# Altium footprint library chinook_lib_symbol_rotor.PcbLib: 3 footprints
Each footprint in its own frame and in the unit in brackets; x right, y up, seen from the top. Pads: shape width x height; smd on the part's side, far side on the other; paste and mask are expansions set on the pad; w line width, h text height; cw(c..) or ccw(c..) is an arc to the next point about the centre after c.
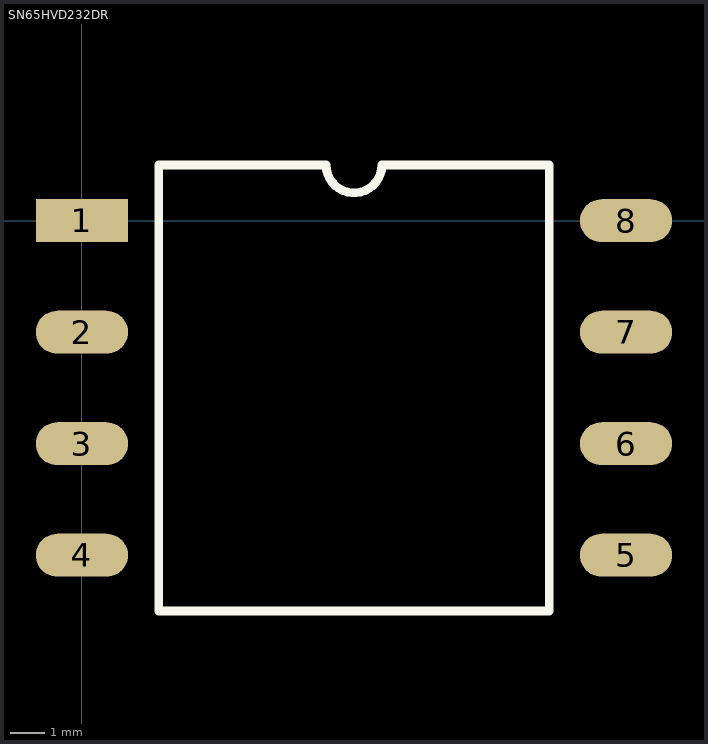
[diagram p0: the footprints below, top view; thin cyan lines are the x and y axes]

## PCBComponent_1 [mil]

## PCBComponent_1 - duplicate [mil]

## SN65HVD232DR [mil]
pads (8):
  rect 105x49 smd: 1(0,0)
  oval 105x49 smd: 2(0,-127) 3(0,-254) 4(0,-381) 5(620,-381) 6(620,-254) 7(620,-127) 8(620,0)
Top Overlay:
  lines w10: 87.5,-444.5 87.5,63.5 278.25,63.5 ccw(c310,63.5) 341.75,63.5 532.5,63.5 532.5,-444.5 87.5,-444.5